# Altium footprint library Ale.PcbLib: 181 footprints (part 9 of 12)
Each footprint in its own frame and in the unit in brackets; x right, y up, seen from the top. Pads: shape width x height; smd on the part's side, far side on the other; paste and mask are expansions set on the pad; w line width, h text height; cw(c..) or ccw(c..) is an arc to the next point about the centre after c.
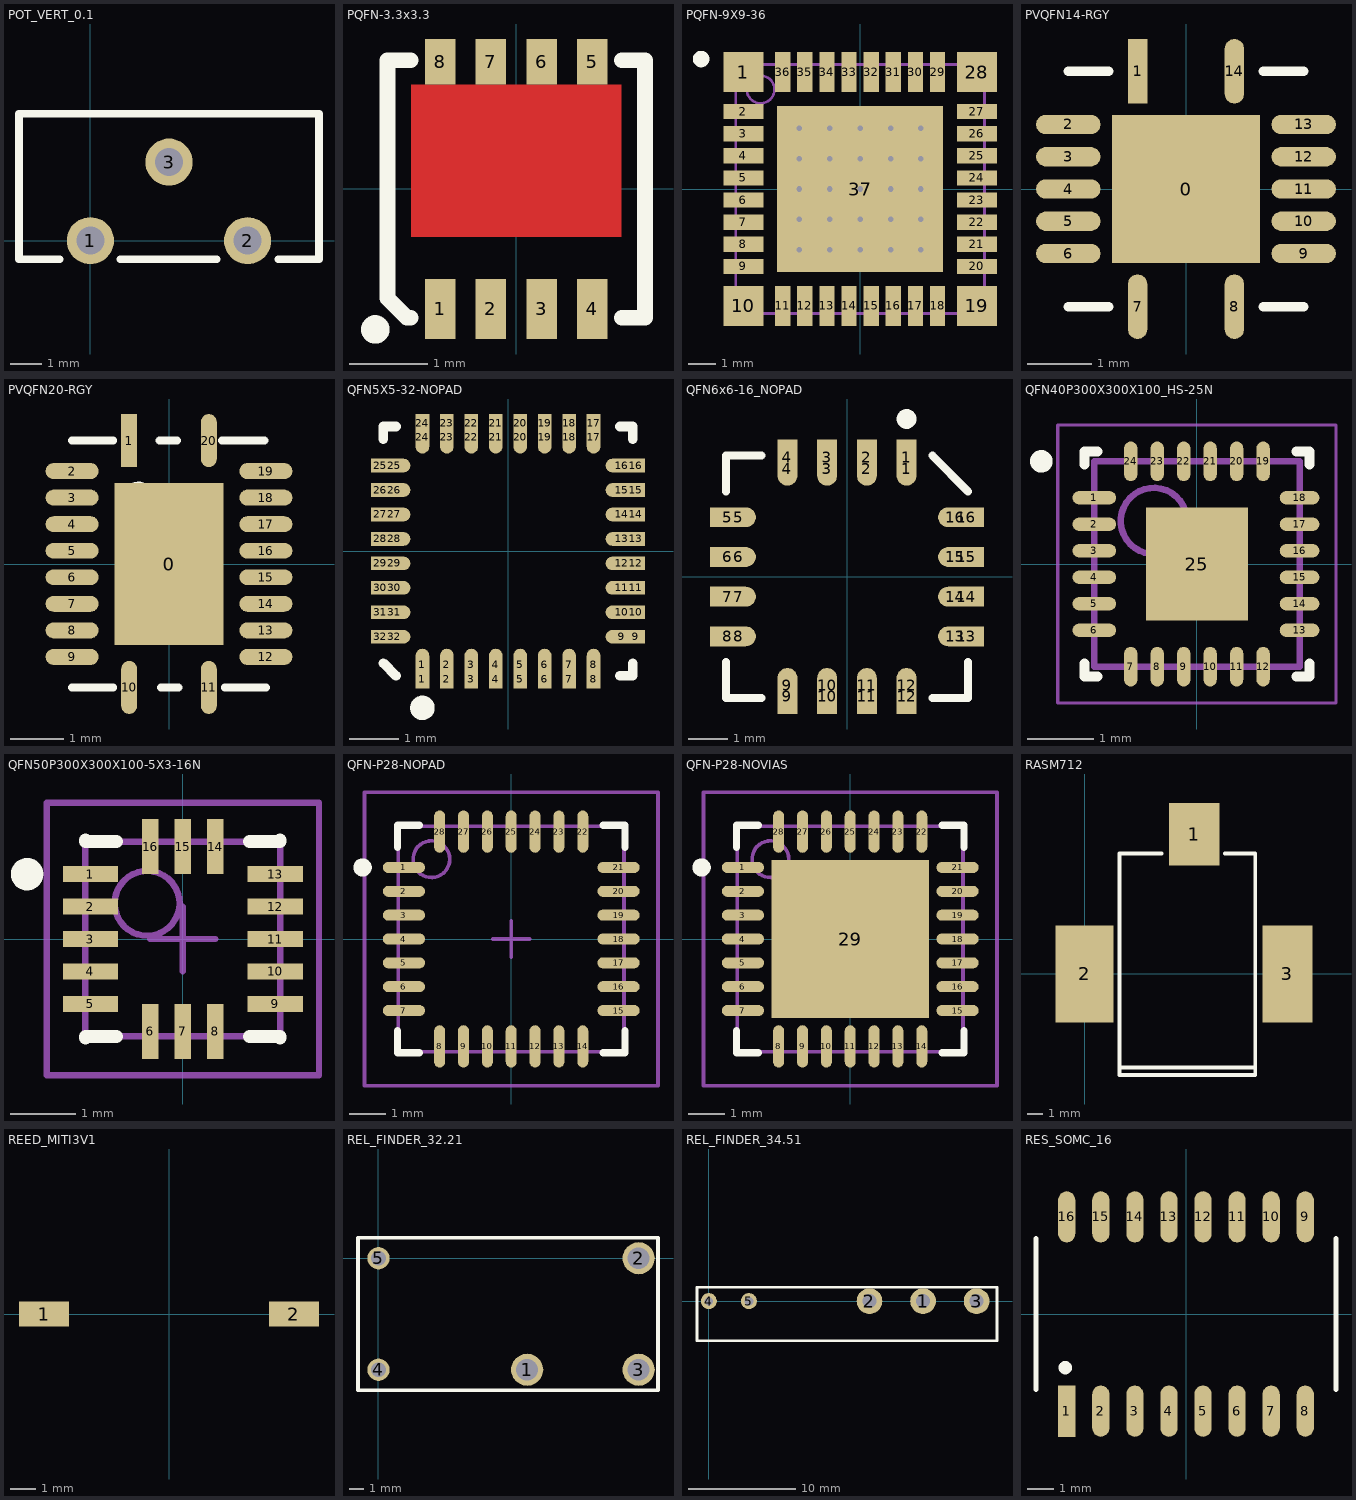
[diagram p8: the footprints below, top view; thin cyan lines are the x and y axes]

## POT_VERT_0.1 [mil] "Standard 1/10\" pitch vertical trimmer"
height 393.7
pads (3):
  round 60 hole 35.43: 1(0,0) 2(200,0) 3(100,100)
Top Overlay:
  lines w9.84: -39.37,-23.62 -90.94,-23.62 -90.94,161.42 290.94,161.42 290.94,-23.62 239.37,-23.62 ; 38.39,-23.62 160.43,-23.62
3D body: height 393.7, standoff 0, extent -95.87,-28.54 295.87,166.34

## PQFN-3.3x3.3 [mm] "3.3 x 3.3 mm power QFN MOSFETs"
height 1.05
pads (8):
  rect 0.39x0.77 smd: 1(-0.975,-1.538) 2(-0.325,-1.538) 3(0.325,-1.538) 4(0.975,-1.538)
  rect 0.39x0.58 smd: 5(0.975,1.633) 6(0.325,1.633) 7(-0.325,1.633) 8(-0.975,1.633)
Top Layer:
  rectangle: -1.35,-0.617 1.35,1.343
Top Overlay:
  circle w0.254: c-1.806,-1.8 r0.056
  lines w0.2: -1.35,-1.65 -1.4,-1.65 -1.65,-1.4 -1.65,1.65 -1.35,1.65 ; 1.35,-1.65 1.65,-1.65 1.65,1.65 1.35,1.65
3D body: height 1.05, standoff 0, extent -1.65,-1.65 1.65,1.65

## PQFN-9X9-36 [mm] "QFN, 36-Leads, Body 9x9mm, Pitch 0.8mm, Thermal Pad 6x6mm"
height 2.2
pads (37):
  rect 1.45x1.45 smd: 1(-4.225,4.225) 10(-4.225,-4.225) 19(4.225,-4.225) 28(4.225,4.225)
  rect 1.45x0.55 smd: 2(-4.225,2.8) 3(-4.225,2) 4(-4.225,1.2) 5(-4.225,0.4) 6(-4.225,-0.4) 7(-4.225,-1.2) 8(-4.225,-2) 9(-4.225,-2.8) 20(4.225,-2.8) 21(4.225,-2) 22(4.225,-1.2) 23(4.225,-0.4) 24(4.225,0.4) 25(4.225,1.2) 26(4.225,2) 27(4.225,2.8)
  rect 0.55x1.45 smd: 11(-2.8,-4.225) 12(-2,-4.225) 13(-1.2,-4.225) 14(-0.4,-4.225) 15(0.4,-4.225) 16(1.2,-4.225) 17(2,-4.225) 18(2.8,-4.225) 29(2.8,4.225) 30(2,4.225) 31(1.2,4.225) 32(0.4,4.225) 33(-0.4,4.225) 34(-1.2,4.225) 35(-2,4.225) 36(-2.8,4.225)
  rect 6x6 smd: 37(0,0)
via 2.2,-2.2 diameter 0.5 hole 0.2
via 1.1,-2.2 diameter 0.5 hole 0.2
via 0,-2.2 diameter 0.5 hole 0.2
via -1.1,-2.2 diameter 0.5 hole 0.2
via -2.2,-2.2 diameter 0.5 hole 0.2
via 2.2,-1.1 diameter 0.5 hole 0.2
via 1.1,-1.1 diameter 0.5 hole 0.2
via 0,-1.1 diameter 0.5 hole 0.2
via -1.1,-1.1 diameter 0.5 hole 0.2
via -2.2,-1.1 diameter 0.5 hole 0.2
via 2.2,0 diameter 0.5 hole 0.2
via 1.1,0 diameter 0.5 hole 0.2
via 0,0 diameter 0.5 hole 0.2
via -1.1,0 diameter 0.5 hole 0.2
via -2.2,0 diameter 0.5 hole 0.2
via 2.2,1.1 diameter 0.5 hole 0.2
via 1.1,1.1 diameter 0.5 hole 0.2
via 0,1.1 diameter 0.5 hole 0.2
via -1.1,1.1 diameter 0.5 hole 0.2
via -2.2,1.1 diameter 0.5 hole 0.2
via 2.2,2.2 diameter 0.5 hole 0.2
via 1.1,2.2 diameter 0.5 hole 0.2
via 0,2.2 diameter 0.5 hole 0.2
via -1.1,2.2 diameter 0.5 hole 0.2
via -2.2,2.2 diameter 0.5 hole 0.2
Top Overlay:
  circle w0.3: c-5.75,4.7 r0.15
Mechanical 13:
  circle w0.1: c-3.6,3.6 r0.5
  lines w0.1: -4.5,-4.5 4.5,-4.5 4.5,4.5 -4.5,4.5 -4.5,-4.5
Mechanical 15:
  lines w0.1: -0.5,0 0.5,0 ; 0,-0.5 0,0.5
3D body: height 2.2, standoff 0, extent -4.5,-4.5 4.5,4.5

## PVQFN14-RGY [mm] "Texas Instruments RGY package, 14 pins"
height 1
pads (15):
  rect 2.3x2.3 smd: 0(0,0)
  rect 0.3x1 smd: 1(-0.75,1.825)
  oval 1x0.3 smd: 2(-1.825,1) 3(-1.825,0.5) 4(-1.825,0) 5(-1.825,-0.5) 6(-1.825,-1) 9(1.825,-1) 10(1.825,-0.5) 11(1.825,0) 12(1.825,0.5) 13(1.825,1)
  oval 0.3x1 smd: 7(-0.75,-1.825) 8(0.75,-1.825) 14(0.75,1.825)
Top Overlay:
  circle w0.3: c-0.75,0.75 r0.15
  lines w0.15: -1.825,-1.825 -1.2,-1.825 ; -1.825,1.825 -1.2,1.825 ; 1.2,-1.825 1.825,-1.825 ; 1.2,1.825 1.825,1.825
3D body: height 1, standoff 0, extent -1.824,-1.824 1.825,1.825

## PVQFN20-RGY [mm] "Texas Instruments RGY package, 20 pins"
height 1
pads (21):
  rect 2.05x3.05 smd: 0(0,0)
  rect 0.3x1 smd: 1(-0.75,2.325)
  oval 1x0.3 smd: 2(-1.825,1.75) 3(-1.825,1.25) 4(-1.825,0.75) 5(-1.825,0.25) 6(-1.825,-0.25) 7(-1.825,-0.75) 8(-1.825,-1.25) 9(-1.825,-1.75) 12(1.825,-1.75) 13(1.825,-1.25) 14(1.825,-0.75) 15(1.825,-0.25) 16(1.825,0.25) 17(1.825,0.75) 18(1.825,1.25) 19(1.825,1.75)
  oval 0.3x1 smd: 10(-0.75,-2.325) 11(0.75,-2.325) 20(0.75,2.325)
Top Overlay:
  circle w0.3: c-0.575,1.25 r0.15
  lines w0.15: -1.825,-2.325 -1.05,-2.325 ; -1.825,2.325 -1.05,2.325 ; -0.175,2.325 0.15,2.325 ; -0.15,-2.325 0.175,-2.325 ; 1,2.325 1.8,2.325 ; 1.05,-2.325 1.825,-2.325
3D body: height 1, standoff 0, extent -1.9,-2.4 1.9,2.4

## QFN5X5-32-NOPAD [mm] "Quad Flat No Lead; 32 Terminals; Body 5 x 5 mm; Pitch 0.5 mm; no central pad"
height 1
pads (64):
  rect 0.28x0.38 smd: 1(-1.75,-2.615) 2(-1.25,-2.615) 3(-0.75,-2.615) 4(-0.25,-2.615) 5(0.25,-2.615) 6(0.75,-2.615) 7(1.25,-2.615) 8(1.75,-2.615) 17(1.75,2.615) 18(1.25,2.615) 19(0.75,2.615) 20(0.25,2.615) 21(-0.25,2.615) 22(-0.75,2.615) 23(-1.25,2.615) 24(-1.75,2.615)
  oval 0.28x0.66 smd: 1(-1.75,-2.325) 2(-1.25,-2.325) 3(-0.75,-2.325) 4(-0.25,-2.325) 5(0.25,-2.325) 6(0.75,-2.325) 7(1.25,-2.325) 8(1.75,-2.325) 17(1.75,2.325) 18(1.25,2.325) 19(0.75,2.325) 20(0.25,2.325) 21(-0.25,2.325) 22(-0.75,2.325) 23(-1.25,2.325) 24(-1.75,2.325)
  oval 0.66x0.28 smd: 9(2.325,-1.75) 10(2.325,-1.25) 11(2.325,-0.75) 12(2.325,-0.25) 13(2.325,0.25) 14(2.325,0.75) 15(2.325,1.25) 16(2.325,1.75) 25(-2.325,1.75) 26(-2.325,1.25) 27(-2.325,0.75) 28(-2.325,0.25) 29(-2.325,-0.25) 30(-2.325,-0.75) 31(-2.325,-1.25) 32(-2.325,-1.75)
  rect 0.38x0.28 smd: 9(2.615,-1.75) 10(2.615,-1.25) 11(2.615,-0.75) 12(2.615,-0.25) 13(2.615,0.25) 14(2.615,0.75) 15(2.615,1.25) 16(2.615,1.75) 25(-2.615,1.75) 26(-2.615,1.25) 27(-2.615,0.75) 28(-2.615,0.25) 29(-2.615,-0.25) 30(-2.615,-0.75) 31(-2.615,-1.25) 32(-2.615,-1.75)
Top Overlay:
  circle w0.25: c-1.75,-3.205 r0.125
  lines w0.2: -2.55,-2.29 -2.29,-2.55 ; -2.55,2.29 -2.55,2.55 -2.29,2.55 ; 2.29,-2.55 2.55,-2.55 2.55,-2.29 ; 2.29,2.55 2.55,2.55 2.55,2.29
3D body: height 0.85, standoff 0, extent -2.5,-2.5 2.5,2.5

## QFN6x6-16_NOPAD [mm] "Quad Flat No Lead; 16 Terminals; Body 6 x 6 mm; Pitch 1 mm; no central pad"
pads (32):
  oval 0.5x0.86 smd: 1(1.5,2.725) 2(0.5,2.725) 3(-0.5,2.725) 4(-1.5,2.725) 9(-1.5,-2.725) 10(-0.5,-2.725) 11(0.5,-2.725) 12(1.5,-2.725)
  rect 0.5x0.9 smd: 1(1.5,3.005) 2(0.5,3.005) 3(-0.5,3.005) 4(-1.5,3.005) 9(-1.5,-3.005) 10(-0.5,-3.005) 11(0.5,-3.005) 12(1.5,-3.005)
  rect 0.9x0.5 smd: 5(-3.005,1.5) 6(-3.005,0.5) 7(-3.005,-0.5) 8(-3.005,-1.5) 13(3.005,-1.5) 14(3.005,-0.5) 15(3.005,0.5) 16(3.005,1.5)
  oval 0.86x0.5 smd: 5(-2.725,1.5) 6(-2.725,0.5) 7(-2.725,-0.5) 8(-2.725,-1.5) 13(2.725,-1.5) 14(2.725,-0.5) 15(2.725,0.5) 16(2.725,1.5)
Top Overlay:
  circle w0.25: c1.5,3.975 r0.125
  lines w0.2: -3.05,-2.15 -3.05,-3.05 -2.15,-3.05 ; -3.05,2.15 -3.05,3.05 -2.15,3.05 ; 2.15,-3.05 3.05,-3.05 3.05,-2.15 ; 2.15,3.05 3.05,2.15
3D body: height 0.85, standoff 0, extent -3,-3 3,3

## QFN40P300X300X100_HS-25N [mm] "QFN, 24-Leads, Body 3.00x3.00mm, Pitch 0.40mm, Thermal Pad 1.54x1.70mm, IPC Medium Density"
height 1
pads (25):
  oval 0.66x0.2 smd: 1(-1.55,1) 2(-1.55,0.6) 3(-1.55,0.2) 4(-1.55,-0.2) 5(-1.55,-0.6) 6(-1.55,-1)
  oval 0.2x0.6 smd: 7(-1,-1.55) 8(-0.6,-1.55) 9(-0.2,-1.55) 10(0.2,-1.55) 11(0.6,-1.55) 12(1,-1.55) 19(1,1.55) 20(0.6,1.55) 21(0.2,1.55) 22(-0.2,1.55) 23(-0.6,1.55) 24(-1,1.55)
  oval 0.6x0.2 smd: 13(1.55,-1) 14(1.55,-0.6) 15(1.55,-0.2) 16(1.55,0.2) 17(1.55,0.6) 18(1.55,1)
  rect 1.54x1.7 smd: 25(0,0)
Top Overlay:
  circle w0.18: c-2.35,1.55 r0.08
  lines w0.15: -1.7,-1.5 -1.7,-1.7 -1.5,-1.7 ; -1.7,1.5 -1.7,1.7 -1.5,1.7 ; 1.5,-1.7 1.7,-1.7 1.7,-1.5 ; 1.5,1.7 1.7,1.7 1.7,1.5
Mechanical 13:
  circle w0.1: c-0.65,0.65 r0.5
  lines w0.1: -1.55,-1.55 1.55,-1.55 1.55,1.55 -1.55,1.55 -1.55,-1.55
Mechanical 15:
  lines w0.05: -2.1,-2.1 2.1,-2.1 2.1,2.1 -2.1,2.1 -2.1,-2.1
  lines w0.1: -0.5,0 0.5,0 ; 0,-0.5 0,0.5
3D body: height 1, standoff 0.02, extent -1.55,-1.55 1.55,1.55

## QFN50P300X300X100-5X3-16N [mm] "QFN, 16-Leads, Body 3.0x3.0mm (max), Pitch 0.50mm, 5 pins by 3 pins, IPC Medium Density"
height 1
pads (16):
  rect 0.85x0.25 smd: 1(-1.425,1) 2(-1.425,0.5) 3(-1.425,0) 4(-1.425,-0.5) 5(-1.425,-1) 9(1.425,-1) 10(1.425,-0.5) 11(1.425,0) 12(1.425,0.5) 13(1.425,1)
  rect 0.25x0.85 smd: 6(-0.5,-1.425) 7(0,-1.425) 8(0.5,-1.425) 14(0.5,1.425) 15(0,1.425) 16(-0.5,1.425)
Top Overlay:
  circle w0.25: c-2.4,1 r0.125
  lines w0.2: -1.5,-1.525 -1.5,-1.5 -1.025,-1.5 ; -1.5,1.525 -1.5,1.5 -1.025,1.5 ; 1.025,-1.5 1.5,-1.5 1.5,-1.525 ; 1.025,1.5 1.5,1.5 1.5,1.525
Mechanical 13:
  circle w0.1: c-0.55,0.55 r0.5
  lines w0.1: -1.5,-1.5 1.5,-1.5 1.5,1.5 -1.5,1.5 -1.5,-1.5
Mechanical 15:
  lines w0.1: -0.5,0 0.5,0 ; 0,-0.5 0,0.5 ; -2.1,-2.1 2.1,-2.1 2.1,2.1 -2.1,2.1 -2.1,-2.1
3D body: height 1, standoff 0.05, extent -1.5,-1.5 1.5,1.5

## QFN-P28-NOPAD [mm] "QFN, 28-Leads, Body 6x6 mm, Pitch 0.65mm, IPC Low Density, No Central Pad"
height 1
pads (28):
  oval 1.15x0.3 smd: 1(-2.925,1.95) 2(-2.925,1.3) 3(-2.925,0.65) 4(-2.925,0) 5(-2.925,-0.65) 6(-2.925,-1.3) 7(-2.925,-1.95) 15(2.925,-1.95) 16(2.925,-1.3) 17(2.925,-0.65) 18(2.925,0) 19(2.925,0.65) 20(2.925,1.3) 21(2.925,1.95)
  oval 0.3x1.15 smd: 8(-1.95,-2.925) 9(-1.3,-2.925) 10(-0.65,-2.925) 11(0,-2.925) 12(0.65,-2.925) 13(1.3,-2.925) 14(1.95,-2.925) 22(1.95,2.925) 23(1.3,2.925) 24(0.65,2.925) 25(0,2.925) 26(-0.65,2.925) 27(-1.3,2.925) 28(-1.95,2.925)
Top Overlay:
  circle w0.25: c-4.05,1.95 r0.125
  lines w0.2: -3.1,-2.5 -3.1,-3.1 -2.5,-3.1 ; -3.1,2.5 -3.1,3.1 -2.5,3.1 ; 2.5,-3.1 3.1,-3.1 3.1,-2.5 ; 2.5,3.1 3.1,3.1 3.1,2.5
Mechanical 13:
  circle w0.1: c-2.175,2.175 r0.5
  lines w0.1: -3.075,-3.075 3.075,-3.075 3.075,3.075 -3.075,3.075 -3.075,-3.075
Mechanical 15:
  lines w0.1: -0.5,0 0.5,0 ; 0,-0.5 0,0.5 ; -4,-4 4,-4 4,4 -4,4 -4,-4
3D body: height 1, standoff 0, extent -3.075,-3.075 3.075,3.075

## QFN-P28-NOVIAS [mm] "QFN, 28-Leads, Body 6x6 mm, Pitch 0.65mm, IPC Low Density, No Vias"
height 1
pads (29):
  oval 1.15x0.3 smd: 1(-2.925,1.95) 2(-2.925,1.3) 3(-2.925,0.65) 4(-2.925,0) 5(-2.925,-0.65) 6(-2.925,-1.3) 7(-2.925,-1.95) 15(2.925,-1.95) 16(2.925,-1.3) 17(2.925,-0.65) 18(2.925,0) 19(2.925,0.65) 20(2.925,1.3) 21(2.925,1.95)
  oval 0.3x1.15 smd: 8(-1.95,-2.925) 9(-1.3,-2.925) 10(-0.65,-2.925) 11(0,-2.925) 12(0.65,-2.925) 13(1.3,-2.925) 14(1.95,-2.925) 22(1.95,2.925) 23(1.3,2.925) 24(0.65,2.925) 25(0,2.925) 26(-0.65,2.925) 27(-1.3,2.925) 28(-1.95,2.925)
  rect 4.3x4.3 smd: 29(0,0)
Top Overlay:
  circle w0.25: c-4.05,1.95 r0.125
  lines w0.2: -3.1,-2.5 -3.1,-3.1 -2.5,-3.1 ; -3.1,2.5 -3.1,3.1 -2.5,3.1 ; 2.5,-3.1 3.1,-3.1 3.1,-2.5 ; 2.5,3.1 3.1,3.1 3.1,2.5
Mechanical 13:
  circle w0.1: c-2.175,2.175 r0.5
  lines w0.1: -3.075,-3.075 3.075,-3.075 3.075,3.075 -3.075,3.075 -3.075,-3.075
Mechanical 15:
  lines w0.1: -0.5,0 0.5,0 ; 0,-0.5 0,0.5 ; -4,-4 4,-4 4,4 -4,4 -4,-4
3D body: height 1, standoff 0, extent -3.075,-3.075 3.075,3.075

## RASM712 [mil] "Switchcraft RASM 712/722/732 power jack"
height 429.13
pads (3):
  rect 130x160 smd: 1(283,360)
  rect 150x250 smd: 2(0,0)
  rect 130x250 smd: 3(523,0)
Top Overlay:
  lines w10: 90,-241.14 440,-241.14 ; 198.82,310 90,310 90,-260 440,-260 440,310 362.2,310
3D body: height 429.13, standoff 0, extent 86.54,-262.87 445.94,315.04

## REED_MITI3V1 [mm] "Hamlin MITI-3V1 reed contact"
height 1.9
pads (2):
  rect 2x1 smd: 1(-5,0) 2(5,0)
3D body: height 1.81, standoff 0, extent -3.43,-0.908 3.43,0.908

## REL_FINDER_32.21 [mm] "Finder relay, 32.21 series"
height 10.7
pads (5):
  round 2.2 hole 1.5: 1(10.16,-7.62) 2(17.78,0) 3(17.78,-7.62)
  round 1.524 hole 1: 4(0,-7.62) 5(0,0)
Top Overlay:
  lines w0.254: -1.4,-9.02 19.1,-9.02 19.1,1.4 -1.4,1.4 -1.4,-9.02
3D body: height 10.7, standoff 0, extent -1.399,-9.019 19.099,1.399

## REL_FINDER_34.51 [mm] "Finder relay, 34.51 series"
height 15
pads (5):
  round 2.4 hole 1.3: 1(20,0) 2(15,0) 3(25,0)
  round 1.5 hole 0.8: 4(0,0) 5(3.75,0)
Top Overlay:
  lines w0.254: -1.1,-3.7 26.9,-3.7 26.9,1.3 -1.1,1.3 -1.1,-3.7

## RES_SOMC_16 [mm] "Vishay SOMC series resistor networks, 16 pins"
height 2.03
pads (16):
  rect 0.64x1.91 smd: 1(-4.445,-3.62)
  oval 0.64x1.91 smd: 2(-3.175,-3.62) 3(-1.905,-3.62) 4(-0.635,-3.62) 5(0.635,-3.62) 6(1.905,-3.62) 7(3.175,-3.62) 8(4.445,-3.62) 9(4.445,3.62) 10(3.175,3.62) 11(1.905,3.62) 12(0.635,3.62) 13(-0.635,3.62) 14(-1.905,3.62) 15(-3.175,3.62) 16(-4.445,3.62)
Top Overlay:
  circle w0.25: c-4.5,-2 r0.125
  lines w0.2: -5.59,-2.8 -5.59,2.8 ; 5.59,-2.8 5.59,2.8
3D body: height 2.03, standoff 0, extent -5.59,-2.8 5.59,2.8